# Altium footprint library STM32F103VET6.PcbLib: 79 footprints (part 2 of 5)
Each footprint in its own frame and in the unit in brackets; x right, y up, seen from the top. Pads: shape width x height; smd on the part's side, far side on the other; paste and mask are expansions set on the pad; w line width, h text height; cw(c..) or ccw(c..) is an arc to the next point about the centre after c.
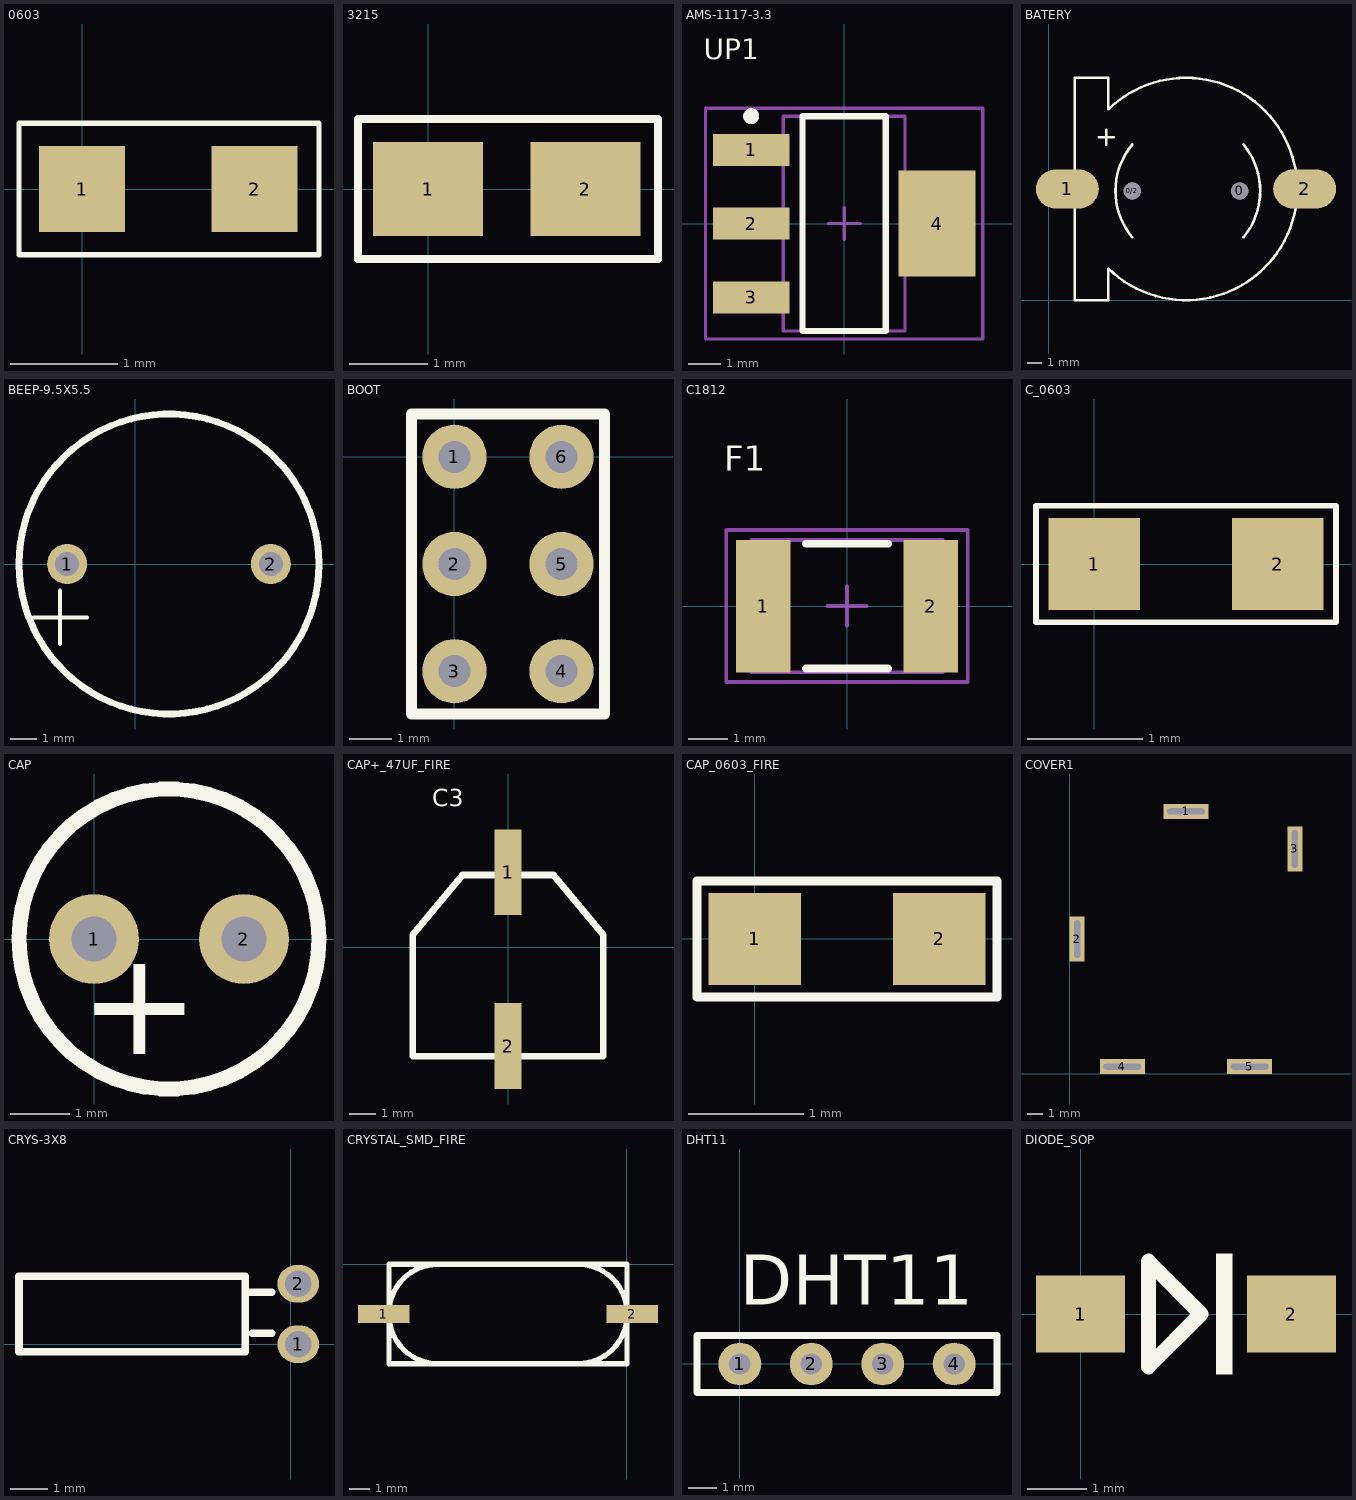
[diagram p1: the footprints below, top view; thin cyan lines are the x and y axes]

## 0603 [mm]
pads (2):
  rect 0.8x0.8 smd: 1(0,0) 2(1.6,0)
Top Overlay:
  lines w0.051: -0.584,-0.61 -0.584,0.61 2.197,0.61 2.197,-0.61 -0.584,-0.61

## 3215 [mm]
pads (2):
  rect 1.4x1.2 smd: 1(0,0) 2(2,0)
Top Overlay:
  lines w0.1: -0.889,-0.889 2.921,-0.889 2.921,0.889 -0.889,0.889 ; -0.889,0.889 -0.889,-0.855 -0.889,0.889

## AMS-1117-3.3 [mm]
height 1.6
pads (4):
  rect 2.4x1 smd: 1(-2.9,2.3) 2(-2.9,0) 3(-2.9,-2.3)
  rect 2.4x3.3 smd: 4(2.9,0)
Top Overlay:
  circle w0.25: c-2.9,3.35 r0.125
  lines w0.2: -1.3,-3.35 1.3,-3.35 1.3,3.35 -1.3,3.35 -1.3,-3.35
  text "UP1" at -4.375,5.123 h0.64
Mechanical 16:
  lines w0.1: -0.5,0 0.5,0 ; 0,-0.5 0,0.5 ; -4.325,-3.6 4.325,-3.6 4.325,3.6 -4.325,3.6 -4.325,-3.6 ; -1.9,-3.35 1.9,-3.35 1.9,3.35 -1.9,3.35 -1.9,-3.35

## BATERY [mil]
pads (4):
  round 46 hole 46: 0(515,295) 0/2(225,295)
  oval 169.29x106.3 smd: 1(50,300) 2(690,300)
Top Overlay:
  lines w7: 135,440 175,440 ; 155,420 155,460 ; 160.38,85.39 160,0 70,0 70,300 70,600 160,600 160.38,514.61 ; 160.48,85.29 ccw(c370,300) 668.19,267.08 ; 160.48,514.71 cw(c370,300) 370,600 cw(c370,300) 668.19,332.92 ; 224.77,170.28 cw(c375,295) 224.99,419.99 ; 525.01,170.01 ccw(c375,295) 525.01,419.99

## BEEP-9.5X5.5 [mm]
pads (2):
  round 1.5 hole 0.9: 1(-2.54,0) 2(5.08,0)
Top Overlay:
  circle w0.254: c1.27,0 r5.611
  lines w0.152: -3.8,-2 -1.8,-2 ; -2.8,-3 -2.8,-1

## BOOT [mil]
pads (6):
  round 60 hole 30: 1(0,0) 2(0,-100) 3(0,-200) 4(100,-200) 5(100,-100) 6(100,0)
Top Overlay:
  lines w10: -40,-240 140,-240 140,40 -40,40 -40,-240

## C1812 [mm]
pads (2):
  rect 1.4x3.4 smd: 1(-2.15,0) 2(2.15,0)
Top Overlay:
  lines w0.2: -1.05,-1.6 1.05,-1.6 ; -1.05,1.6 1.05,1.6
  text "F1" at -3.15,3.473 h0.64
Mechanical 16:
  lines w0.1: -0.5,0 0.5,0 ; 0,-0.5 0,0.5 ; -3.1,-1.95 3.1,-1.95 3.1,1.95 -3.1,1.95 -3.1,-1.95 ; -2.45,-1.7 2.45,-1.7 2.45,1.7 -2.45,1.7 -2.45,-1.7

## C_0603 [mm]
pads (2):
  rect 0.8x0.8 smd: 1(0,0) 2(1.6,0)
Top Overlay:
  lines w0.051: -0.508,-0.508 -0.508,0.508 2.108,0.508 2.108,-0.508 -0.508,-0.508

## CAP [mil]
pads (2):
  round 60 hole 30: 1(0,0) 2(100,0)
Top Overlay:
  circle w10: c50,0 r100
  text "+" at -10,-100 h120

## CAP+_47UF_FIRE [mm]
pads (2):
  rect 1x3.2 smd: 1(0,2.8) 2(0,-3.683)
Top Overlay:
  lines w0.254: -3.556,-4.064 3.556,-4.064 3.556,0.473 1.7,2.7 -1.7,2.7 -3.556,0.473 -3.556,-4.064
  text "C3" at -2.827,5.273 h0.64

## CAP_0603_FIRE [mm]
pads (2):
  rect 0.8x0.8 smd: 1(0,0) 2(1.6,0)
Top Layer:
  text "C1" at 0.007,-0.143 h0.4
Top Overlay:
  lines w0.076: -0.5,-0.502 -0.5,0.501 2.1,0.501 2.1,-0.502 -0.5,-0.502

## COVER1 [mm]
pads (5):
  rect 3x1 hole 0.4 slot 2.5 at 0 deg: 1(7.75,17.5) 4(3.5,0.5) 5(12,0.5)
  rect 1x3 hole 0.4 slot 2.5 at 90 deg: 2(0.5,9) 3(15,15)

## CRYS-3X8 [mm]
pads (2):
  oval 1.1x1 hole 0.7: 1(0.199,-0.003) 2(0.199,1.597)
Top Overlay:
  lines w0.2: -1.09,1.375 -0.5,1.375 ; -1.022,0.292 -0.5,0.292 ; -7.2,-0.2 -7.2,1.8 -1.2,1.8 -1.2,-0.2 -7.2,-0.2

## CRYSTAL_SMD_FIRE [mm]
pads (2):
  rect 2.5x0.85 smd: 1(-11.75,-2.4) 2(0.25,-2.4)
Top Overlay:
  lines w0.254: -11.5,-2.469 -11.5,-2.4 ; -11.5,-2.468 ccw(c-9.135,-2.435) -9.102,-4.8 ; -11.5,-2.398 cw(c-9.135,-2.365) -9.168,0 ; -2.398,0 cw(c-2.365,-2.365) 0,-2.332 ; -2.332,-4.8 ccw(c-2.365,-2.435) 0,-2.402 ; 0,-2.4 0,-2.331 ; -11.5,-4.8 0,-4.8 0,0 -11.5,0 -11.5,-4.8

## DHT11 [mil]
pads (4):
  round 60 hole 30: 1(0,0) 2(100,0) 3(200,0) 4(300,0)
Top Overlay:
  lines w10: -60,-40 360,-40 360,40 -60,40 -60,-40
  text "DHT11" at 0,60 h120

## DIODE_SOP [mm]
pads (2):
  rect 1.5x1.3 smd: 1(0,0) 2(3.556,0)
Top Overlay:
  region: 2.286,-1.016 2.559,-1.016 2.559,1.016 2.286,1.016
  lines w0.254: 1.143,-0.889 2.032,0 1.143,0.889 1.143,-0.889